# Altium schematic symbol library ne555dimmer.SchLib: 3 symbols
Pins are listed as number, name and electrical type; pins without a type are passive.

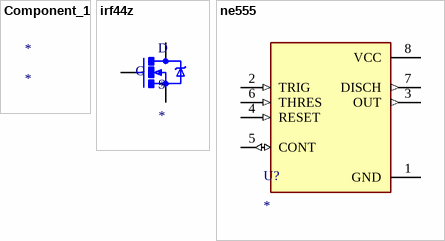
[diagram p0: symbols Component_1 to ne555]

## Component_1
designator *

## irf44z
designator *
footprint ırfz44
pins: 1 G, 2 D, 3 S

## ne555
designator U?
footprint ne555
pins: 1 GND (power), 2 TRIG (in), 3 OUT (out), 4 RESET (in), 5 CONT (io), 6 THRES (in), 7 DISCH (out), 8 VCC (power)